# EAGLE library part MAX478X (library DAC)
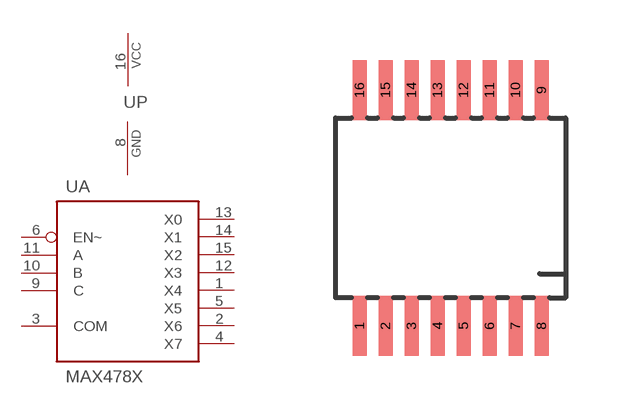
[diagram p39: symbol with the pads of TSSOP16; footprint TSSOP16]

Designator prefix U; gates A=8:1MUX P=PWR

## MAX478XEUE  [TSSOP16]
1  A:X4
2  A:X6
3  A:COM
4  A:X7
5  A:X5
6  A:EN~  in
8  P:GND  pwr
9  A:C  in
10  A:B  in
11  A:A  in
12  A:X3
13  A:X0
14  A:X1
15  A:X2
16  P:VCC  pwr

## Footprint TSSOP16 (pad centres in mm)
smd 0.35 x 1.5: 1 -2.275,-2.95; 2 -1.625,-2.95; 3 -0.975,-2.95; 4 -0.325,-2.95; 5 0.325,-2.95; 6 0.975,-2.95; 7 1.625,-2.95; 8 2.275,-2.95; 9 2.275,2.95; 10 1.625,2.95; 11 0.975,2.95; 12 0.325,2.95; 13 -0.325,2.95; 14 -0.975,2.95; 15 -1.625,2.95; 16 -2.275,2.95